# Altium footprint library MODULE_ZC323900.PcbLib: 1 footprints
Each footprint in its own frame and in the unit in brackets; x right, y up, seen from the top. Pads: shape width x height; smd on the part's side, far side on the other; paste and mask are expansions set on the pad; w line width, h text height; cw(c..) or ccw(c..) is an arc to the next point about the centre after c.
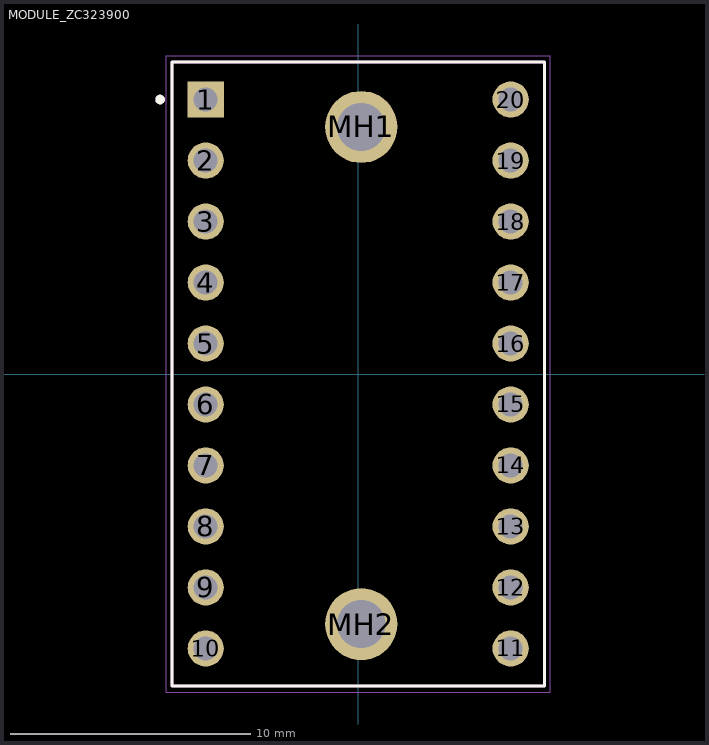
[diagram p0: the footprint, top view; thin cyan lines are the x and y axes]

## MODULE_ZC323900 [mm]
pads (22):
  rect 1.508x1.508 / inner round 1.508 / far side rect 1.508x1.508 hole 1 mask+0.102: 1(-6.35,11.43)
  round 1.508 hole 1 mask+0.102: 2(-6.35,8.89) 3(-6.35,6.35) 4(-6.35,3.81) 5(-6.35,1.27) 6(-6.35,-1.27) 7(-6.35,-3.81) 8(-6.35,-6.35) 9(-6.35,-8.89) 10(-6.35,-11.43) 11(6.35,-11.43) 12(6.35,-8.89) 13(6.35,-6.35) 14(6.35,-3.81) 15(6.35,-1.27) 16(6.35,1.27) 17(6.35,3.81) 18(6.35,6.35) 19(6.35,8.89) 20(6.35,11.43)
  round 3 hole 2 mask+0.102: MH1(0.127,10.287) MH2(0.127,-10.414)
Top Overlay:
  circle w0.2: c-8.25,11.43 r0.1
  lines w0.127: -7.75,-13 7.75,-13 7.75,13 -7.75,13 -7.75,-13
Assembly Top:
  circle w0.2: c-8.25,11.43 r0.1
  lines w0.127: -7.75,-13 7.75,-13 7.75,13 -7.75,13 -7.75,-13
Courtyard Top:
  lines w0.05: -8,-13.25 8,-13.25 8,13.25 -8,13.25 -8,-13.25
3D body "TXS0108E.step": height 2.26, standoff 0, extent -7.872,-13 8.128,13